# Altium footprint library 1724480002.PcbLib: 2 footprints
Each footprint in its own frame and in the unit in brackets; x right, y up, seen from the top. Pads: shape width x height; smd on the part's side, far side on the other; paste and mask are expansions set on the pad; w line width, h text height; cw(c..) or ccw(c..) is an arc to the next point about the centre after c.
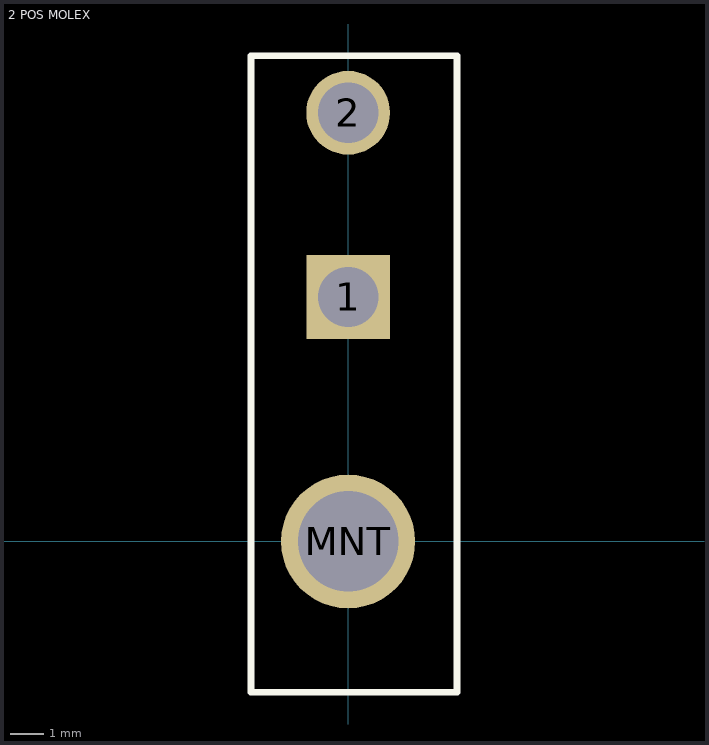
[diagram p0: the footprints below, top view; thin cyan lines are the x and y axes]

## 2 POS MOLEX [mm] "1724480002"
pads (3):
  rect 2.5x2.5 hole 1.8 mask+0.06: 1(0,7.3)
  round 2.5 hole 1.8 mask+0.06: 2(0,12.8)
  round 4 hole 3 unplated mask+0.06: MNT(0,0)
Top Overlay:
  lines w0.2: -2.9,-4.5 3.25,-4.5 3.25,14.5 -2.9,14.5 -2.9,-4.5
Mechanical 16:
  text ".Designator" at 0.838,-3.946 h1.52
3D body "1724480002.stp": height 11.4, standoff -3.6, extent -2.7,-6.567 3.1,13.367

## PCBComponent_1 [mm]